# Altium footprint library WL-OCHS.PcbLib: 4 footprints
Each footprint in its own frame and in the unit in brackets; x right, y up, seen from the top. Pads: shape width x height; smd on the part's side, far side on the other; paste and mask are expansions set on the pad; w line width, h text height; cw(c..) or ccw(c..) is an arc to the next point about the centre after c.
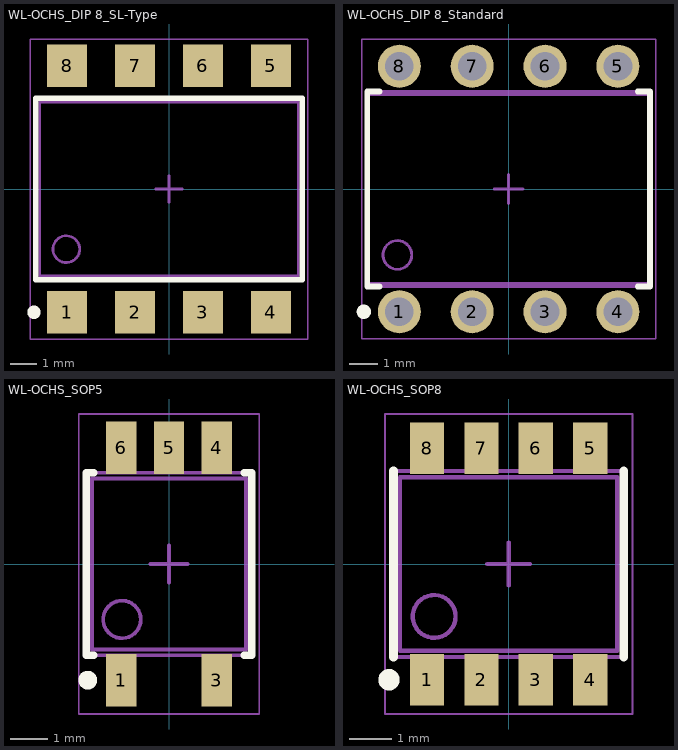
[diagram p0: the footprints below, top view; thin cyan lines are the x and y axes]

## WL-OCHS_DIP 8_SL-Type [mm] "Optocoupler High Speed"
height 3.5
pads (8):
  rect 1.5x1.6 smd: 1(-3.81,-4.61) 2(-1.27,-4.61) 3(1.27,-4.61) 4(3.81,-4.61) 5(3.81,4.61) 6(1.27,4.61) 7(-1.27,4.61) 8(-3.81,4.61)
Top Overlay:
  circle w0.25: c-5.05,-4.61 r0.125
  lines w0.2: -4.99,-3.4 -4.99,3.4 4.99,3.4 4.99,-3.4 -4.99,-3.4
Top Assembly:
  circle w0.1: c-3.84,-2.25 r0.5
  lines w0.1: -4.99,-3.4 4.99,-3.4 4.99,3.4 -4.99,3.4 -4.99,-3.4
Top Designator:
  text ".Designator" at -3.647,-0.357 h1
Top 3D Body:
  circle w0.1: c-3.84,-2.25 r0.5
  lines w0.1: -4.84,-3.25 -4.84,3.25 4.84,3.25 4.84,1.59 4.84,-3.25 -4.84,-3.25
Top Courtyard:
  lines w0.05: -5.19,-5.61 -5.19,5.61 5.19,5.61 5.19,-5.61 -5.19,-5.61
Top Component Center:
  lines w0.1: -0.5,0 0.5,0 ; 0,-0.5 0,0.5
3D body "WL-OCHS_DIP8-SL.stp": height 3.62, standoff 0.02, extent -4.84,-5.075 4.84,5.075

## WL-OCHS_DIP 8_Standard [mm] "Optocoupler High Speed"
height 4.5
pads (8):
  round 1.5 hole 1: 1(-3.81,-4.28) 2(-1.27,-4.28) 3(1.27,-4.28) 4(3.81,-4.28) 5(3.81,4.28) 6(1.27,4.28) 7(-1.27,4.28) 8(-3.81,4.28)
Top Overlay:
  circle w0.25: c-5.05,-4.28 r0.125
  lines w0.2: -4.5,-3.4 -4.93,-3.4 -4.93,3.4 -4.5,3.4 ; 4.5,-3.4 4.93,-3.4 4.93,3.4 4.5,3.4
Top Assembly:
  circle w0.1: c-3.88,-2.3 r0.5
  lines w0.1: -4.93,-3.4 4.93,-3.4 4.93,3.4 -4.93,3.4 -4.93,-3.4
Top Designator:
  text ".Designator" at -3.647,-0.357 h1
Top 3D Body:
  circle w0.1: c-3.88,-2.3 r0.5
  lines w0.1: -4.88,-3.3 4.88,-3.3 4.88,3.3 -4.88,3.3 -4.88,-3.3
Top Courtyard:
  lines w0.05: -5.13,-5.23 5.13,-5.23 5.13,5.23 -5.13,5.23 -5.13,-5.23
Top Component Center:
  lines w0.1: -0.5,0 0.5,0 ; 0,-0.5 0,0.5
3D body "WL-OCHS_DIP8.stp": height 4.35, standoff -2.95, extent -4.88,-4.626 4.88,4.626

## WL-OCHS_SOP5 [mil] "Optocoupler High Speed"
height 80.71
pads (5):
  rect 31.5x55.12 smd: 1(-50,-121.65) 3(50,-121.65) 4(50,121.65) 5(0,121.65) 6(-50,121.65)
Top Overlay:
  circle w9.84: c-85.04,-121.65 r4.92
  lines w7.87: -78.74,-95.47 -86.61,-95.47 -86.61,95.47 -78.74,95.47 ; 78.74,-95.47 86.61,-95.47 86.61,95.47 78.74,95.47
Top Assembly:
  circle w3.94: c-49.21,-58.07 r19.68
  lines w3.94: -86.61,-95.47 86.61,-95.47 86.61,95.47 -86.61,95.47 -86.61,-95.47
Top Designator:
  text ".Designator" at -143.58,-14.06 h39.37
Top 3D Body:
  circle w3.94: c-49.21,-58.07 r19.68
  lines w3.94: -80.71,-89.57 80.71,-89.57 80.71,89.57 -80.71,89.57 -80.71,-89.57
Top Courtyard:
  lines w1.97: -94.49,-157.09 94.49,-157.09 94.49,157.09 -94.49,157.09 -94.49,-157.09
Top Component Center:
  lines w3.94: -19.68,0 19.68,0 ; 0,-19.68 0,19.68
3D body "SOP5.stp": height 84.84, standoff 0.2, extent -80.71,-137.8 80.71,137.8

## WL-OCHS_SOP8 [mil] "Optocoupler High Speed"
height 125.2
pads (8):
  rect 31.5x47.24 smd: 1(-75,-106.5) 2(-25,-106.5) 3(25,-106.5) 4(75,-106.5) 5(75,106.5) 6(25,106.5) 7(-25,106.5) 8(-75,106.5)
Top Overlay:
  circle w9.84: c-110.04,-106.5 r4.92
  lines w7.87: -105.91,-85.63 -105.91,85.63 ; 105.91,-85.63 105.91,85.63
Top Assembly:
  circle w3.94: c-68.5,-48.23 r19.68
  lines w3.94: -105.91,-85.63 105.91,-85.63 105.91,85.63 -105.91,85.63 -105.91,-85.63
Top Designator:
  text ".Designator" at -143.58,-14.06 h39.37
Top 3D Body:
  circle w3.94: c-68.5,-48.23 r19.68
  lines w3.94: -100,-79.72 100,-79.72 100,79.72 -100,79.72 -100,-79.72
Top Courtyard:
  lines w1.97: -113.78,-137.99 -113.78,137.99 113.78,137.99 113.78,-137.99 -113.78,-137.99
Top Component Center:
  lines w3.94: -19.68,0 19.68,0 ; 0,-19.68 0,19.68
3D body "SOP8.stp": height 130.31, standoff 0.45, extent -100,-118.11 100,118.11